# Altium footprint library picofusionHseries.PcbLib: 1 footprints
Each footprint in its own frame and in the unit in brackets; x right, y up, seen from the top. Pads: shape width x height; smd on the part's side, far side on the other; paste and mask are expansions set on the pad; w line width, h text height; cw(c..) or ccw(c..) is an arc to the next point about the centre after c.
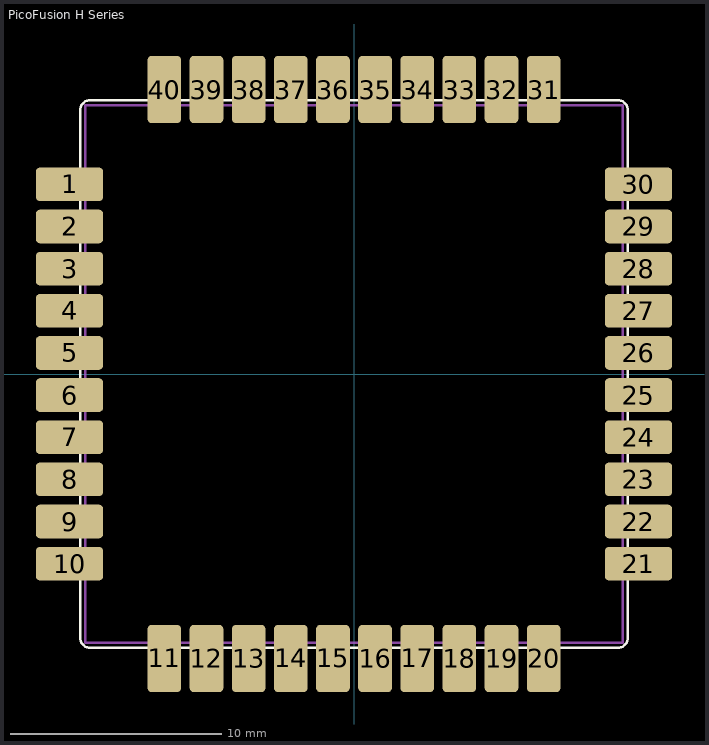
[diagram p0: the footprint, top view; thin cyan lines are the x and y axes]

## PicoFusion H Series [mm]
pads (40):
  rrect25% 3.2x1.6 smd: 1(-13.5,9) 2(-13.5,7) 3(-13.5,5) 4(-13.5,3) 5(-13.5,1) 6(-13.5,-1) 7(-13.5,-3) 8(-13.5,-5) 9(-13.5,-7) 10(-13.5,-9) 21(13.5,-9) 22(13.5,-7) 23(13.5,-5) 24(13.5,-3) 25(13.5,-1) 26(13.5,1) 27(13.5,3) 28(13.5,5) 29(13.5,7) 30(13.5,9)
  rrect25% 1.6x3.2 smd: 11(-9,-13.5) 12(-7,-13.5) 13(-5,-13.5) 14(-3,-13.5) 15(-1,-13.5) 16(1,-13.5) 17(3,-13.5) 18(5,-13.5) 19(7,-13.5) 20(9,-13.5) 31(9,13.5) 32(7,13.5) 33(5,13.5) 34(3,13.5) 35(1,13.5) 36(-1,13.5) 37(-3,13.5) 38(-5,13.5) 39(-7,13.5) 40(-9,13.5)
F.SilkS:
  lines w0.12: -13,-12.5 ccw(c-12.5,-12.5) -12.5,-13 12.5,-13 ccw(c12.5,-12.5) 13,-12.5 13,12.5 ccw(c12.5,12.5) 12.5,13 -12.5,13 ccw(c-12.5,12.5) -13,12.5 -13,-12.5
F.CrtYd:
  lines w0.12: -12.75,-12.75 12.75,-12.75 12.75,12.75 -12.75,12.75 -12.75,-12.75